# Altium schematic symbol library AH8501-FDC-7.SchLib: 1 symbol
Pins are listed as number, name and electrical type; pins without a type are passive.

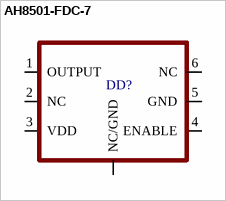
[diagram p0: symbol AH8501-FDC-7]

## AH8501-FDC-7
designator DD?
pins: 0 NC/GND, 1 OUTPUT, 2 NC, 3 VDD, 4 ENABLE, 5 GND, 6 NC